# Altium footprint library RFI EMI Contacts Fingerstock Gaskets.PcbLib: 1 footprints
Each footprint in its own frame and in the unit in brackets; x right, y up, seen from the top. Pads: shape width x height; smd on the part's side, far side on the other; paste and mask are expansions set on the pad; w line width, h text height; cw(c..) or ccw(c..) is an arc to the next point about the centre after c.
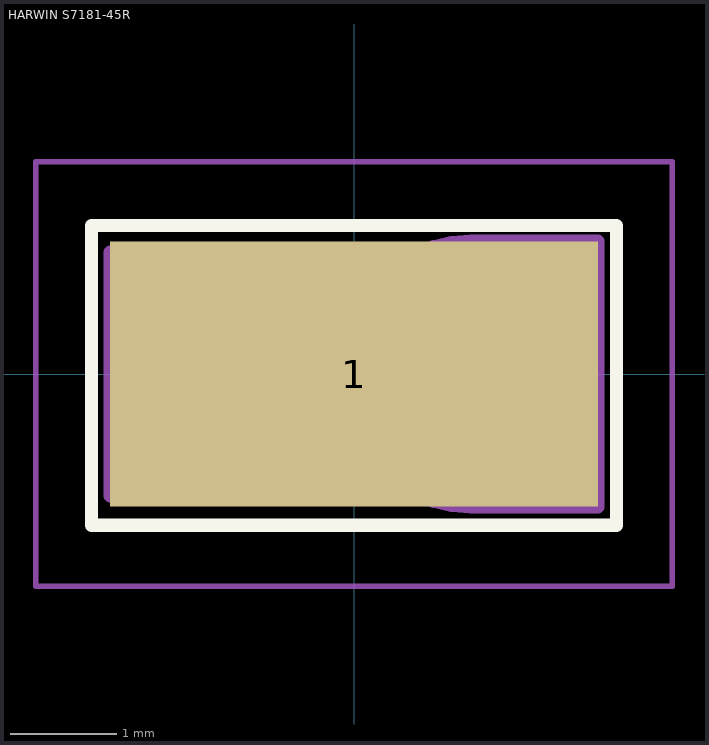
[diagram p0: the footprint, top view; thin cyan lines are the x and y axes]

## HARWIN S7181-45R [mm] "RFI SHLD FINGER PHOS GOLD SOLDER"
height 4.5
pads (1):
  rect 4.6x2.5 smd: 1(0,0)
Top Overlay:
  lines w0.127: -2.475,-1.425 -2.475,1.4 2.475,1.4 2.475,-1.425 -2.475,-1.425
Top Component Outline:
  lines w0.127: 0.749,-1.198 ccw(c1.1,-0.05) 1.1,-1.25 2.3,-1.25 2.3,1.25 1.1,1.25 ccw(c1.1,0.05) 0.749,1.198 ; 0.752,-1.198 0.6,-1.15 -2.3,-1.15 -2.3,1.15 0.6,1.15 0.752,1.198
Top Courtyard (Mech15):
  lines w0.05: -3,-2 -3,2 3,2 3,-2 -3,-2
3D body "HARWIN S7181-45.stp": height 4.49, standoff 0, extent -2.3,-1.25 2.3,1.25